# Altium footprint library ZMBo Footprint Library.PcbLib: 50 footprints (part 2 of 4)
Each footprint in its own frame and in the unit in brackets; x right, y up, seen from the top. Pads: shape width x height; smd on the part's side, far side on the other; paste and mask are expansions set on the pad; w line width, h text height; cw(c..) or ccw(c..) is an arc to the next point about the centre after c.
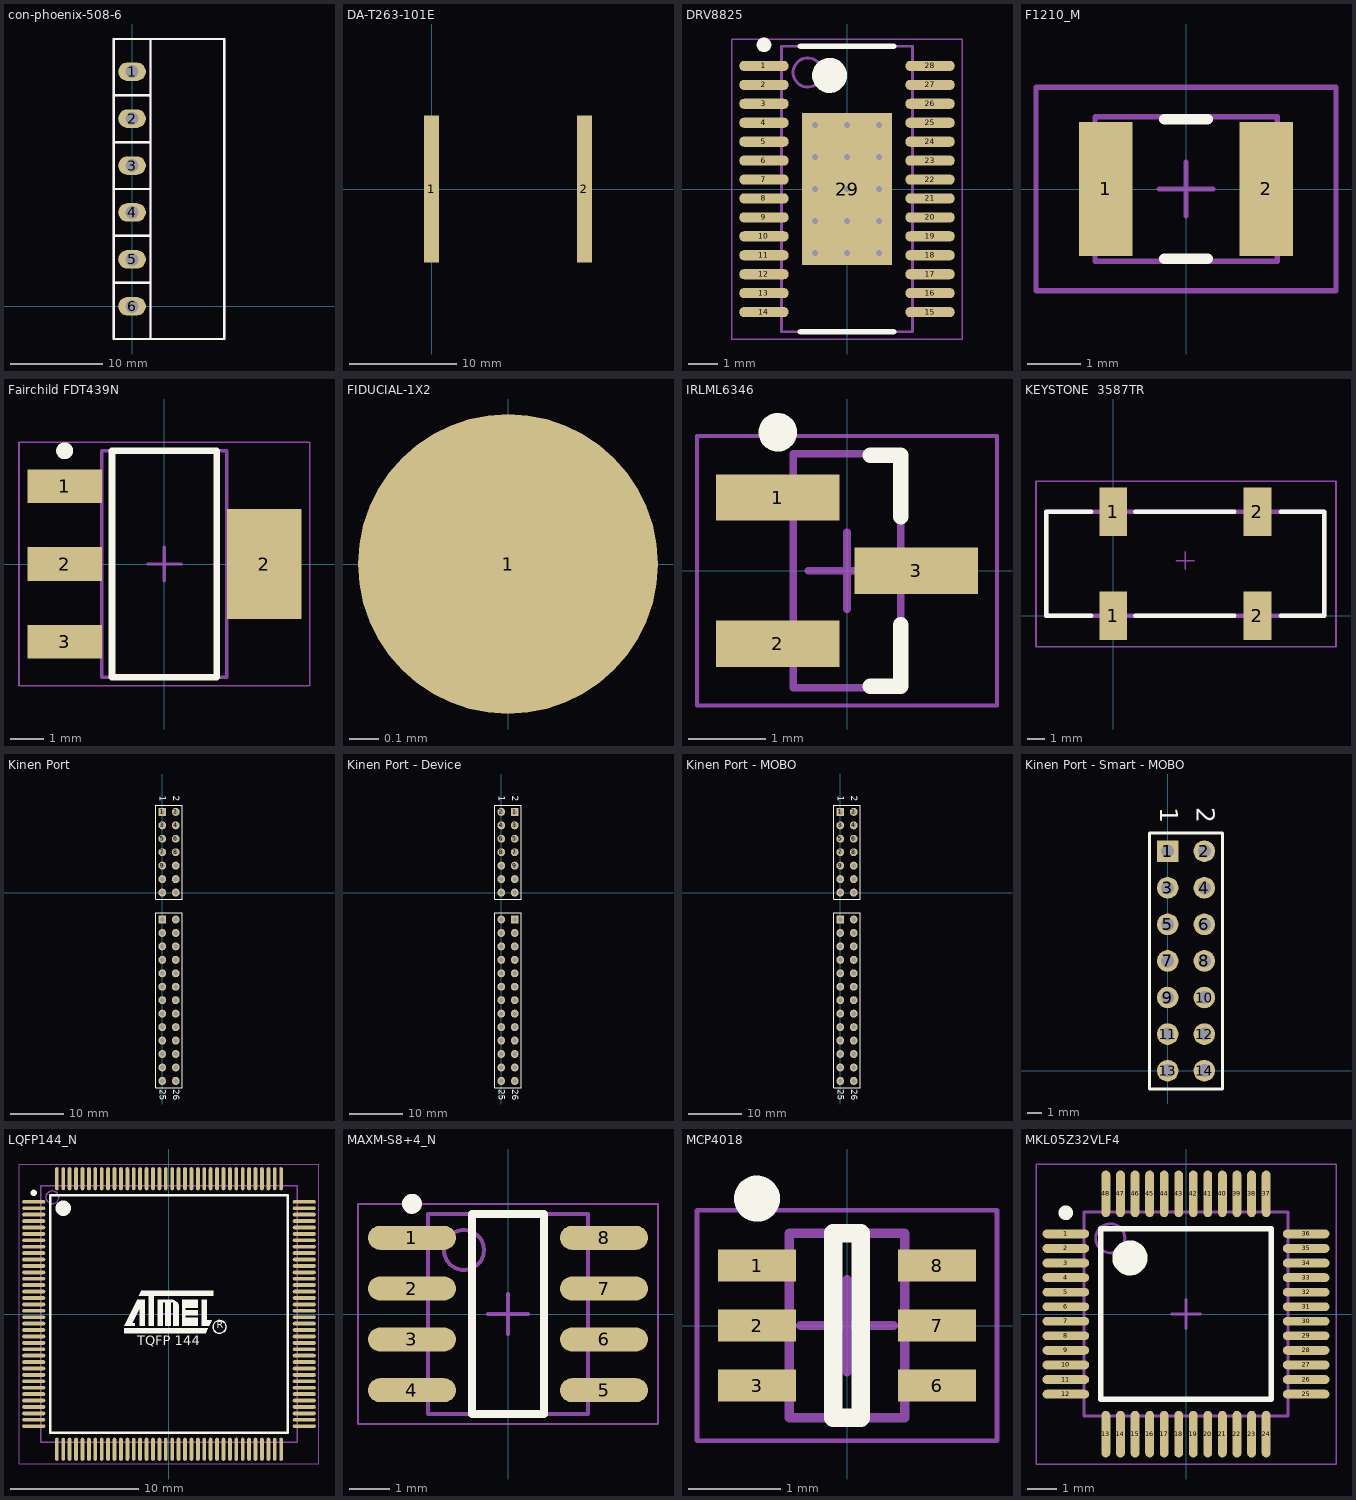
[diagram p1: the footprints below, top view; thin cyan lines are the x and y axes]

## con-phoenix-508-6 [mm] "con-phoenix-508"
pads (6):
  oval 3x2 hole 1.4: 1(0,25.4) 2(0,20.32) 3(0,15.24) 4(0,10.16) 5(0,5.08) 6(0,0)
Top Overlay:
  lines w0.254: -2,2.54 2,2.54 ; -2,7.62 2,7.62 ; -2,12.7 2,12.7 ; -2,17.78 2,17.78 ; -2,22.86 2,22.86 ; 2,-3.54 2,28.94 ; -2,-3.54 -2,28.94 10,28.94 10,-3.54 -2,-3.54
Mechanical 1:
  lines w0.254: -2,2.54 2,2.54 ; -2,7.62 2,7.62 ; -2,12.7 2,12.7 ; -2,17.78 2,17.78 ; -2,22.86 2,22.86 ; 2,-3.54 2,28.94 ; -2,-3.54 10,-3.54 10,28.94 -2,28.94 -2,-3.54

## DA-T263-101E [mm]
pads (2):
  rect 1.4x13.7 smd: 1(0,0) 2(14.2,0)

## DRV8825 [mm] "TSOP, 28-Leads, Body 9.70x4.40mm, Pitch 0.65mm, Thermal Pad 5.22.2x3.10.2mm, IPC Medium Density"
height 1.2
pads (29):
  oval 1.7x0.35 smd: 1(-2.85,4.225) 2(-2.85,3.575) 3(-2.85,2.925) 4(-2.85,2.275) 5(-2.85,1.625) 6(-2.85,0.975) 7(-2.85,0.325) 8(-2.85,-0.325) 9(-2.85,-0.975) 10(-2.85,-1.625) 11(-2.85,-2.275) 12(-2.85,-2.925) 13(-2.85,-3.575) 14(-2.85,-4.225) 15(2.85,-4.225) 16(2.85,-3.575) 17(2.85,-2.925) 18(2.85,-2.275) 19(2.85,-1.625) 20(2.85,-0.975) 21(2.85,-0.325) 22(2.85,0.325) 23(2.85,0.975) 24(2.85,1.625) 25(2.85,2.275) 26(2.85,2.925) 27(2.85,3.575) 28(2.85,4.225)
  rect 3.1x5.22 smd: 29(0,0)
via 1.1,-2.2 diameter 0.5 hole 0.2
via 0,-2.2 diameter 0.5 hole 0.2
via -1.1,-2.2 diameter 0.5 hole 0.2
via 1.1,-1.1 diameter 0.5 hole 0.2
via 0,-1.1 diameter 0.5 hole 0.2
via -1.1,-1.1 diameter 0.5 hole 0.2
via 1.1,0 diameter 0.5 hole 0.2
via 0,0 diameter 0.5 hole 0.2
via -1.1,0 diameter 0.5 hole 0.2
via 1.1,1.1 diameter 0.5 hole 0.2
via 0,1.1 diameter 0.5 hole 0.2
via -1.1,1.1 diameter 0.5 hole 0.2
via 1.1,2.2 diameter 0.5 hole 0.2
via 0,2.2 diameter 0.5 hole 0.2
via -1.1,2.2 diameter 0.5 hole 0.2
Top Overlay:
  circle w0.6: c-0.6,3.9 r0.3
  circle w0.25: c-2.85,4.95 r0.125
  lines w0.2: -1.6,-4.9 1.6,-4.9 ; -1.6,4.9 1.6,4.9
Mechanical 13:
  circle w0.1: c-1.35,4 r0.5
  lines w0.1: -2.25,-4.9 2.25,-4.9 2.25,4.9 -2.25,4.9 -2.25,-4.9
Mechanical 15:
  lines w0.05: -3.95,-5.15 3.95,-5.15 3.95,5.15 -3.95,5.15 -3.95,-5.15
  lines w0.1: -0.5,0 0.5,0 ; 0,-0.5 0,0.5
3D body: height 1.2, standoff 0.1, extent -2.25,-4.9 2.25,4.9

## F1210_M [mm] "Bournes PTC Fuse"
height 1.5
pads (2):
  rect 1x2.5 smd: 1(-1.5,0) 2(1.5,0)
Top Overlay:
  lines w0.2: -0.4,-1.3 0.4,-1.3 ; -0.4,1.3 0.4,1.3
Mechanical 13:
  lines w0.1: -1.7,-1.35 -1.7,1.35 1.7,1.35 1.7,-1.35 -1.7,-1.35
Mechanical 15:
  lines w0.1: -0.5,0 0.5,0 ; 0,-0.5 0,0.5 ; -2.8,-1.9 -2.8,1.9 2.8,1.9 2.8,-1.9 -2.8,-1.9
3D body: height 0.85, standoff 0, extent -1.7,-1.35 1.7,1.4

## Fairchild FDT439N [mm] "SOT223, 4-Leads, Body 6.60x7.08mm (avg), Pitch 2.30mm, IPC Medium Density"
height 1.6
pads (4):
  rect 2.2x1 smd: 1(-2.95,2.3) 2(-2.95,0) 3(-2.95,-2.3)
  rect 2.2x3.25 smd: 2(2.95,0)
Top Overlay:
  circle w0.25: c-2.95,3.35 r0.125
  lines w0.2: -1.55,-3.35 -1.55,3.35 1.55,3.35 1.55,-3.35 -1.55,-3.35
Mechanical 13:
  lines w0.1: -1.85,-3.35 -1.85,3.35 1.85,3.35 1.85,-3.35 -1.85,-3.35
Mechanical 15:
  lines w0.05: -4.3,-3.6 -4.3,3.6 4.3,3.6 4.3,-3.6 -4.3,-3.6
  lines w0.1: -0.5,0 0.5,0 ; 0,-0.5 0,0.5
3D body: height 1.6, standoff 0.06, extent -1.85,-3.35 1.85,3.35

## FIDUCIAL-1X2 [mil]
pads (1):
  rrect100% 40x40 smd paste-3897.64 mask+20: 1(0,0)
3D body: height 0.79, standoff 0, extent -19.84,-19.96 20.01,19.97
3D body: height 0.39, standoff 0, extent -39.68,-39.91 40.01,39.93

## IRLML6346 [mm] "SOT23, 3-Leads, Body 2.92x2.37mm, Pitch 0.95mm, IPC Medium Density"
height 1.12
pads (3):
  rect 1.6x0.6 smd: 1(-0.9,0.95) 2(-0.9,-0.95) 3(0.9,0)
Top Overlay:
  circle w0.25: c-0.9,1.8 r0.125
  lines w0.2: 0.3,-1.5 0.7,-1.5 0.7,-0.7 ; 0.3,1.5 0.7,1.5 0.7,0.7
Mechanical 13:
  lines w0.1: -0.7,-1.52 0.7,-1.52 0.7,1.52 -0.7,1.52 -0.7,-1.52
Mechanical 15:
  lines w0.05: -1.95,-1.75 1.95,-1.75 1.95,1.75 -1.95,1.75 -1.95,-1.75
  lines w0.1: -0.5,0 0.5,0 ; 0,-0.5 0,0.5
3D body: height 1.12, standoff 0.1, extent -0.7,-1.52 0.7,1.52

## KEYSTONE  3587TR [mm] "KEYSTONE  3587TR  Automotive FUse Holder"
pads (4):
  rect 1.6x2.8 smd: 1(0,0) 1(0,6) 2(8.3,0) 2(8.3,6)
Top Overlay:
  lines w0.254: -1.27,0 -3.85,0 -3.85,6 -1.27,6 ; 1.27,0 6.985,0 ; 1.27,6 6.985,6 ; 9.652,0 12.15,0 12.15,6 9.652,6
Mechanical 1:
  lines w0.254: -3.85,0 12.15,0 12.15,6 -3.85,6 -3.85,0
Mechanical 15:
  lines w0.1: 3.65,3.175 4.65,3.175 ; 4.15,2.675 4.15,3.675 ; -4.445,-1.778 12.827,-1.778 12.827,7.747 -4.445,7.747 -4.445,-1.778
3D body: height 7.4, standoff 0, extent -3.81,0 12.192,5.969

## Kinen Port [mm] "Synthetos Kinen Expansion Port Socket"
pads (40):
  rect 1.5x1.5 hole 0.9: 1(0,15.24) 15(0,-5.08)
  round 1.5 hole 0.9: 2(2.54,15.24) 3(0,12.7) 4(2.54,12.7) 5(0,10.16) 6(2.54,10.16) 7(0,7.62) 8(2.54,7.62) 9(0,5.08) 10(2.54,5.08) 11(0,2.54) 12(2.54,2.54) 13(0,0) 14(2.54,0) 16(2.54,-5.08) 17(0,-7.62) 18(2.54,-7.62) 19(0,-10.16) 20(2.54,-10.16) 21(0,-12.7) 22(2.54,-12.7) 23(0,-15.24) 24(2.54,-15.24) 25(0,-17.78) 26(2.54,-17.78) 27(0,-20.32) 28(2.54,-20.32) 29(0,-22.86) 30(2.54,-22.86) 31(0,-25.4) 32(2.54,-25.4) 33(0,-27.94) 34(2.54,-27.94) 35(0,-30.48) 36(2.54,-30.48) 37(0,-33.02) 38(2.54,-33.02) 39(0,-35.56) 40(2.54,-35.56)
Top Overlay:
  lines w0.2: -1.27,-36.83 3.81,-36.83 3.81,-3.81 -1.27,-3.81 -1.27,-36.83 ; -1.27,-1.27 3.81,-1.27 3.81,16.51 -1.27,16.51 -1.27,-1.27
  text "25" at -0.508,-37.084 h1.27
  text "26" at 2.032,-37.084 h1.27
  text "2" at 2.032,18.288 h1.27
  text "1" at -0.508,18.288 h1.27

## Kinen Port - Device [mm] "Synthetos Kinen Expansion Port Socket"
pads (40):
  rect 1.5x1.5 hole 0.9: 1(2.54,15.24) 15(2.54,-5.08)
  round 1.5 hole 0.9: 2(0,15.24) 3(2.54,12.7) 4(0,12.7) 5(2.54,10.16) 6(0,10.16) 7(2.54,7.62) 8(0,7.62) 9(2.54,5.08) 10(0,5.08) 11(2.54,2.54) 12(0,2.54) 13(2.54,0) 14(0,0) 16(0,-5.08) 17(2.54,-7.62) 18(0,-7.62) 19(2.54,-10.16) 20(0,-10.16) 21(2.54,-12.7) 22(0,-12.7) 23(2.54,-15.24) 24(0,-15.24) 25(2.54,-17.78) 26(0,-17.78) 27(2.54,-20.32) 28(0,-20.32) 29(2.54,-22.86) 30(0,-22.86) 31(2.54,-25.4) 32(0,-25.4) 33(2.54,-27.94) 34(0,-27.94) 35(2.54,-30.48) 36(0,-30.48) 37(2.54,-33.02) 38(0,-33.02) 39(2.54,-35.56) 40(0,-35.56)
Top Overlay:
  lines w0.2: -1.27,-36.83 -1.27,-3.81 3.81,-3.81 3.81,-36.83 -1.27,-36.83 ; -1.27,-1.27 -1.27,16.51 3.81,16.51 3.81,-1.27 -1.27,-1.27
  text "1" at -0.508,18.288 h1.27
  text "2" at 2.032,18.288 h1.27
  text "26" at 2.032,-37.084 h1.27
  text "25" at -0.508,-37.084 h1.27

## Kinen Port - MOBO [mm] "Synthetos Kinen Expansion Port Socket"
pads (40):
  rect 1.5x1.5 hole 0.9: 1(0,15.24) 15(0,-5.08)
  round 1.5 hole 0.9: 2(2.54,15.24) 3(0,12.7) 4(2.54,12.7) 5(0,10.16) 6(2.54,10.16) 7(0,7.62) 8(2.54,7.62) 9(0,5.08) 10(2.54,5.08) 11(0,2.54) 12(2.54,2.54) 13(0,0) 14(2.54,0) 16(2.54,-5.08) 17(0,-7.62) 18(2.54,-7.62) 19(0,-10.16) 20(2.54,-10.16) 21(0,-12.7) 22(2.54,-12.7) 23(0,-15.24) 24(2.54,-15.24) 25(0,-17.78) 26(2.54,-17.78) 27(0,-20.32) 28(2.54,-20.32) 29(0,-22.86) 30(2.54,-22.86) 31(0,-25.4) 32(2.54,-25.4) 33(0,-27.94) 34(2.54,-27.94) 35(0,-30.48) 36(2.54,-30.48) 37(0,-33.02) 38(2.54,-33.02) 39(0,-35.56) 40(2.54,-35.56)
Top Overlay:
  lines w0.2: -1.27,-36.83 -1.27,-3.81 3.81,-3.81 3.81,-36.83 -1.27,-36.83 ; -1.27,-1.27 -1.27,16.51 3.81,16.51 3.81,-1.27 -1.27,-1.27
  text "1" at -0.508,18.288 h1.27
  text "2" at 2.032,18.288 h1.27
  text "26" at 2.032,-37.084 h1.27
  text "25" at -0.508,-37.084 h1.27

## Kinen Port - Smart - MOBO [mm]
pads (14):
  rect 1.5x1.5 hole 0.9: 1(0,15.24)
  round 1.5 hole 0.9: 2(2.54,15.24) 3(0,12.7) 4(2.54,12.7) 5(0,10.16) 6(2.54,10.16) 7(0,7.62) 8(2.54,7.62) 9(0,5.08) 10(2.54,5.08) 11(0,2.54) 12(2.54,2.54) 13(0,0) 14(2.54,0)
Top Overlay:
  lines w0.2: -1.27,-1.27 3.81,-1.27 3.81,16.51 -1.27,16.51 -1.27,-1.27
  text "2" at 2.032,18.288 h1.27
  text "1" at -0.508,18.288 h1.27

## LQFP144_N [mm] "Thin QFP, 144-Leads, Body 20x20mm, Pitch 0.5mm, IPC Medium Density"
height 1.6
pads (144):
  oval 1.8x0.3 smd: 1(-10.55,8.75) 2(-10.55,8.25) 3(-10.55,7.75) 4(-10.55,7.25) 5(-10.55,6.75) 6(-10.55,6.25) 7(-10.55,5.75) 8(-10.55,5.25) 9(-10.55,4.75) 10(-10.55,4.25) 11(-10.55,3.75) 12(-10.55,3.25) 13(-10.55,2.75) 14(-10.55,2.25) 15(-10.55,1.75) 16(-10.55,1.25) 17(-10.55,0.75) 18(-10.55,0.25) 19(-10.55,-0.25) 20(-10.55,-0.75) 21(-10.55,-1.25) 22(-10.55,-1.75) 23(-10.55,-2.25) 24(-10.55,-2.75) 25(-10.55,-3.25) 26(-10.55,-3.75) 27(-10.55,-4.25) 28(-10.55,-4.75) 29(-10.55,-5.25) 30(-10.55,-5.75) 31(-10.55,-6.25) 32(-10.55,-6.75) 33(-10.55,-7.25) 34(-10.55,-7.75) 35(-10.55,-8.25) 36(-10.55,-8.75) 73(10.55,-8.75) 74(10.55,-8.25) 75(10.55,-7.75) 76(10.55,-7.25) 77(10.55,-6.75) 78(10.55,-6.25) 79(10.55,-5.75) 80(10.55,-5.25) 81(10.55,-4.75) 82(10.55,-4.25) 83(10.55,-3.75) 84(10.55,-3.25) 85(10.55,-2.75) 86(10.55,-2.25) 87(10.55,-1.75) 88(10.55,-1.25) 89(10.55,-0.75) 90(10.55,-0.25) 91(10.55,0.25) 92(10.55,0.75) 93(10.55,1.25) 94(10.55,1.75) 95(10.55,2.25) 96(10.55,2.75) 97(10.55,3.25) 98(10.55,3.75) 99(10.55,4.25) 100(10.55,4.75) 101(10.55,5.25) 102(10.55,5.75) 103(10.55,6.25) 104(10.55,6.75) 105(10.55,7.25) 106(10.55,7.75) 107(10.55,8.25) 108(10.55,8.75)
  oval 0.3x1.8 smd: 37(-8.75,-10.55) 38(-8.25,-10.55) 39(-7.75,-10.55) 40(-7.25,-10.55) 41(-6.75,-10.55) 42(-6.25,-10.55) 43(-5.75,-10.55) 44(-5.25,-10.55) 45(-4.75,-10.55) 46(-4.25,-10.55) 47(-3.75,-10.55) 48(-3.25,-10.55) 49(-2.75,-10.55) 50(-2.25,-10.55) 51(-1.75,-10.55) 52(-1.25,-10.55) 53(-0.75,-10.55) 54(-0.25,-10.55) 55(0.25,-10.55) 56(0.75,-10.55) 57(1.25,-10.55) 58(1.75,-10.55) 59(2.25,-10.55) 60(2.75,-10.55) 61(3.25,-10.55) 62(3.75,-10.55) 63(4.25,-10.55) 64(4.75,-10.55) 65(5.25,-10.55) 66(5.75,-10.55) 67(6.25,-10.55) 68(6.75,-10.55) 69(7.25,-10.55) 70(7.75,-10.55) 71(8.25,-10.55) 72(8.75,-10.55) 109(8.75,10.55) 110(8.25,10.55) 111(7.75,10.55) 112(7.25,10.55) 113(6.75,10.55) 114(6.25,10.55) 115(5.75,10.55) 116(5.25,10.55) 117(4.75,10.55) 118(4.25,10.55) 119(3.75,10.55) 120(3.25,10.55) 121(2.75,10.55) 122(2.25,10.55) 123(1.75,10.55) 124(1.25,10.55) 125(0.75,10.55) 126(0.25,10.55) 127(-0.25,10.55) 128(-0.75,10.55) 129(-1.25,10.55) 130(-1.75,10.55) 131(-2.25,10.55) 132(-2.75,10.55) 133(-3.25,10.55) 134(-3.75,10.55) 135(-4.25,10.55) 136(-4.75,10.55) 137(-5.25,10.55) 138(-5.75,10.55) 139(-6.25,10.55) 140(-6.75,10.55) 141(-7.25,10.55) 142(-7.75,10.55) 143(-8.25,10.55) 144(-8.75,10.55)
Top Overlay:
  circle w0.102: c3.944,-1.006 r0.508
  circle w0.25: c-10.55,9.45 r0.125
  circle w0.6: c-8.25,8.25 r0.3
  region: -3.473,-0.907 -2.473,1.11 -1.873,1.11 -1.873,-0.907 -2.273,-0.907 -2.273,0.5 -2.873,-0.706 -2.673,-0.706 -2.673,-0.907
  region: -2.373,1.415 -2.173,1.796 3.436,1.796 3.436,1.415 -1.173,1.415 -1.173,-0.907 -1.573,-0.907 -1.573,1.415
  region: -0.873,1.11 -0.873,-0.907 -0.473,-0.907 -0.473,0.907 -0.273,0.907 -0.273,-0.907 0.127,-0.907 0.127,0.907 0.327,0.907 0.327,-0.907 0.744,-0.907 0.744,0.703 0.642,0.907 0.54,1.008 0.327,1.11
  region: 1.048,1.11 1.048,-0.907 2.242,-0.907 2.242,-0.307 1.252,-0.307 1.252,-0.084 2.242,-0.084 2.242,0.297 1.252,0.297 1.252,0.5 2.242,0.5 2.242,1.11
  region: 2.547,1.11 2.547,-0.907 3.131,-0.907 3.334,-0.506 2.928,-0.506 2.928,1.11
  region: -3.473,-1.106 -3.473,-1.506 2.852,-1.506 3.03,-1.106
  lines w0.2: -9.25,-9.25 -9.25,9.25 9.25,9.25 9.25,-9.25 -9.25,-9.25
  text "TQFP 144" at -2.473,-2.717 h1.26
  text "R" at 3.741,-1.307 h0.94
Mechanical 13:
  circle w0.1: c-9.1,9.1 r0.5
  lines w0.1: -10,-10 -10,10 10,10 10,-10 -10,-10
Mechanical 15:
  lines w0.05: -11.7,-11.7 -11.7,11.7 11.7,11.7 11.7,-11.7 -11.7,-11.7
  lines w0.1: -0.5,0 0.5,0 ; 0,-0.5 0,0.5
3D body: height 1.6, standoff 0, extent -10,-10 10,10

## MAXM-S8+4_N [mm] "SOIC, 8-Leads, Body 4.9x3.9mm, Pitch 1.27mm, IPC Medium Density"
height 1.75
pads (8):
  oval 2.2x0.6 smd: 1(-2.4,1.905) 2(-2.4,0.635) 3(-2.4,-0.635) 4(-2.4,-1.905) 5(2.4,-1.905) 6(2.4,-0.635) 7(2.4,0.635) 8(2.4,1.905)
Top Overlay:
  circle w0.25: c-2.4,2.755 r0.125
  lines w0.2: -0.9,-2.5 -0.9,2.5 0.9,2.5 0.9,-2.5 -0.9,-2.5
Mechanical 13:
  circle w0.1: c-1.1,1.6 r0.5
  lines w0.1: -2,-2.5 -2,2.5 2,2.5 2,-2.5 -2,-2.5
Mechanical 15:
  lines w0.05: -3.75,-2.75 -3.75,2.75 3.75,2.75 3.75,-2.75 -3.75,-2.75
  lines w0.1: -0.5,0 0.5,0 ; 0,-0.5 0,0.5
3D body: height 1.75, standoff 0.1, extent -2,-2.5 2,2.5

## MCP4018 [mm] "SOT23, 6-Leads, Body 1.93x2.10mm, Pitch 0.65mm, IPC Medium Density"
height 1.1
pads (6):
  rect 0.85x0.35 smd: 1(-0.975,0.65) 2(-0.975,0) 3(-0.975,-0.65) 6(0.975,-0.65) 7(0.975,0) 8(0.975,0.65)
Top Overlay:
  circle w0.25: c-0.975,1.375 r0.125
  lines w0.2: -0.15,-1 0.15,-1 0.15,1 -0.15,1 -0.15,-1
Mechanical 13:
  lines w0.1: -0.625,-1 -0.625,1 0.625,1 0.625,-1 -0.625,-1
Mechanical 15:
  lines w0.05: -1.625,-1.25 -1.625,1.25 1.625,1.25 1.625,-1.25 -1.625,-1.25
  lines w0.1: -0.5,0 0.5,0 ; 0,-0.5 0,0.5
3D body: height 1.1, standoff 0, extent -0.625,-1 0.625,1

## MKL05Z32VLF4 [mm] "TSQFP, 48-Leads, Body 7.00x7.00mm, Pitch 0.50mm, IPC Medium Density"
height 1.6
pads (48):
  oval 1.6x0.3 smd: 1(-4.125,2.75) 2(-4.125,2.25) 3(-4.125,1.75) 4(-4.125,1.25) 5(-4.125,0.75) 6(-4.125,0.25) 7(-4.125,-0.25) 8(-4.125,-0.75) 9(-4.125,-1.25) 10(-4.125,-1.75) 11(-4.125,-2.25) 12(-4.125,-2.75) 25(4.125,-2.75) 26(4.125,-2.25) 27(4.125,-1.75) 28(4.125,-1.25) 29(4.125,-0.75) 30(4.125,-0.25) 31(4.125,0.25) 32(4.125,0.75) 33(4.125,1.25) 34(4.125,1.75) 35(4.125,2.25) 36(4.125,2.75)
  oval 0.3x1.6 smd: 13(-2.75,-4.125) 14(-2.25,-4.125) 15(-1.75,-4.125) 16(-1.25,-4.125) 17(-0.75,-4.125) 18(-0.25,-4.125) 19(0.25,-4.125) 20(0.75,-4.125) 21(1.25,-4.125) 22(1.75,-4.125) 23(2.25,-4.125) 24(2.75,-4.125) 37(2.75,4.125) 38(2.25,4.125) 39(1.75,4.125) 40(1.25,4.125) 41(0.75,4.125) 42(0.25,4.125) 43(-0.25,4.125) 44(-0.75,4.125) 45(-1.25,4.125) 46(-1.75,4.125) 47(-2.25,4.125) 48(-2.75,4.125)
Top Overlay:
  circle w0.6: c-1.925,1.925 r0.3
  circle w0.25: c-4.125,3.475 r0.125
  lines w0.2: -2.925,-2.925 2.925,-2.925 2.925,2.925 -2.925,2.925 -2.925,-2.925
Mechanical 13:
  circle w0.1: c-2.6,2.6 r0.5
  lines w0.1: -3.5,-3.5 3.5,-3.5 3.5,3.5 -3.5,3.5 -3.5,-3.5
Mechanical 15:
  lines w0.05: -5.15,-5.15 5.15,-5.15 5.15,5.15 -5.15,5.15 -5.15,-5.15
  lines w0.1: -0.5,0 0.5,0 ; 0,-0.5 0,0.5
3D body: height 1.6, standoff 0.05, extent -3.5,-3.5 3.5,3.5